# EAGLE library part 74F257 (library A3660)
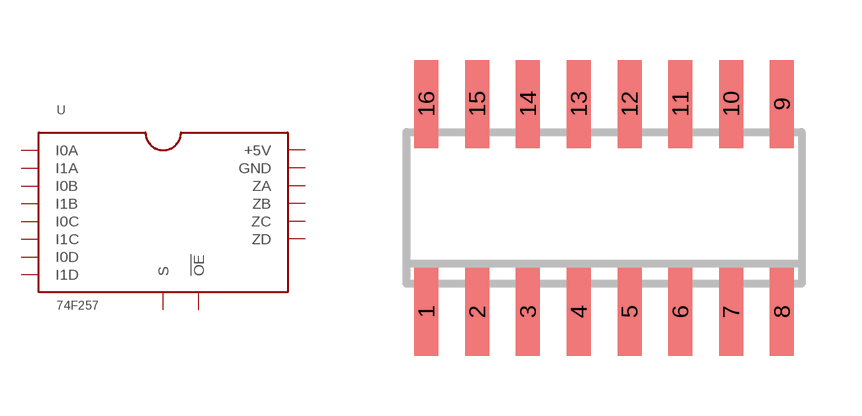
[diagram p10: symbol with the pads of 74F257; footprint 74F257]

Designator prefix -

## 74F257  [74F257]
1  S
2  I0A
3  I1A
4  ZA
5  I0B
6  I1B
7  ZB
8  GND  pwr
9  ZD
10  I1D
11  I0D
12  ZC
13  I1C
14  I0C
15  !OE
16  +5V  pwr

## Footprint 74F257 (pad centres in mm)
smd 0.6 x 2.2: 1 -3.175,-2.6; 2 -1.905,-2.6; 3 -0.635,-2.6; 4 0.635,-2.6; 5 1.905,-2.6; 6 3.175,-2.6; 7 4.445,-2.6; 8 5.715,-2.6; 9 5.715,2.6; 10 4.445,2.6; 11 3.175,2.6; 12 1.905,2.6; 13 0.635,2.6; 14 -0.635,2.6; 15 -1.905,2.6; 16 -3.175,2.6